# Altium schematic symbol library Mechanical.SchLib: 5 symbols
Pins are listed as number, name and electrical type; pins without a type are passive.

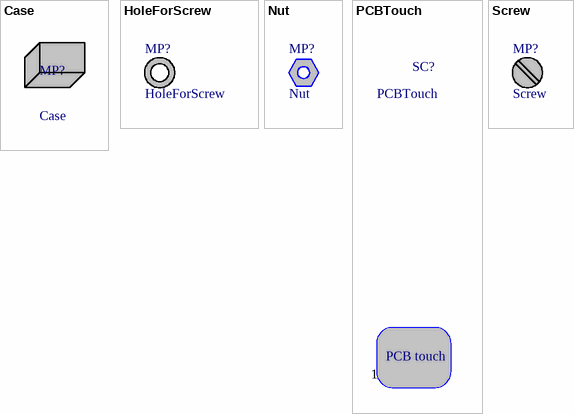
[diagram p0: symbols Case to Screw]

## Case
designator MP?
Any kind of case
footprint CASE1_PO1200D (Case for PO1200D PixelPlus Camera)
footprint FP_CASE1_PO1200D (Footprint for Case 1 of PO1200D PixelPlus Camera)
pins: 0 hidden

## HoleForScrew
designator MP?
Hole for any kind of screw
footprint HoleForScrew-Top-FlatheadCylM2 (Hole for Screw Flathead cylindrical M2, normal size only on top)
pins: 0 hidden

## Nut
designator MP?
Any kind of nut
footprint KVT_SMTSO-M2-2ET (Solder Nut M2)
footprint KVT_KF2-M2 (Crimp Nut M2)
pins: 0 hidden

## PCBTouch
designator SC?
PCB Touch
footprint CC_SmdPad-9x5 (Smd pad 9 x 5 mm)
footprint CC_PCBTouch (Smd pad 9 x 5 mm)
pins: 1 "Power supply"
text: PCB touch

## Screw
designator MP?
Any kind of screw
footprint Screw-Top-FlatheadCylM2 (Screw Flathead cylindrical M2, normal size only on top)
pins: 0 hidden